# Altium footprint library Potentiometre.PcbLib: 2 footprints
Each footprint in its own frame and in the unit in brackets; x right, y up, seen from the top. Pads: shape width x height; smd on the part's side, far side on the other; paste and mask are expansions set on the pad; w line width, h text height; cw(c..) or ccw(c..) is an arc to the next point about the centre after c.
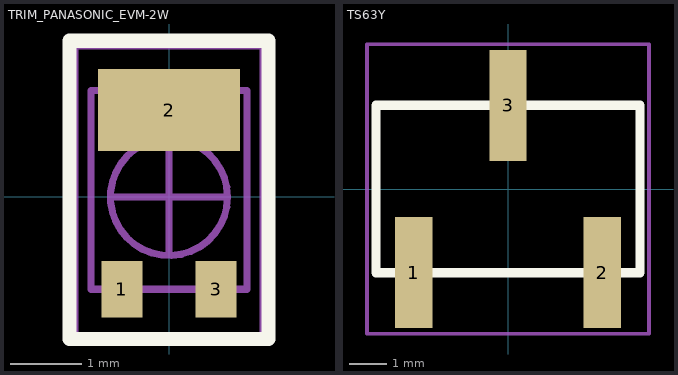
[diagram p0: the footprints below, top view; thin cyan lines are the x and y axes]

## TRIM_PANASONIC_EVM-2W [mm] "SMT Trimmer Potentiometers"
height 1.05
pads (3):
  rect 0.575x0.8 smd: 1(-0.662,-1.3) 3(0.662,-1.3)
  rect 2x1.15 smd: 2(0,1.225)
Top Overlay:
  lines w0.2: -1.4,-2 -1.4,2.2 1.4,2.2 1.4,-2 -1.4,-2
Mechanical 7:
  circle w0.1: c0,0 r0.825
  lines w0.1: -0.8,-1.3 -0.8,-1.5 -0.5,-1.5 -0.5,-1.3 ; -0.8,0 0.825,0 ; -0.6,1.5 -0.6,1.7 0.5,1.7 0.5,1.5 ; 0,-0.8 0,0.8 ; 0.5,-1.3 0.5,-1.5 0.8,-1.5 0.8,-1.3 ; -1.1,-1.3 -1.1,1.5 1.1,1.5 1.1,-1.3 -1.1,-1.3
  text ".Designator" at -0.3,1 h1.2
Mechanical 9:
  lines w0.05: -1.3,-1.95 -1.3,2.1 1.3,2.1 1.3,-1.95 -1.3,-1.95
  lines w0.1: -0.5,0 0.5,0 ; 0,-0.5 0,0.5
3D body "User Library-EVM2W.step": height 1.05, standoff 0, extent -1.1,-1.3 1.1,1.45

## TS63Y [mm] "VISHAY SFERNICE  TS63Y104KT20  TRIMMER CMS 13 TOURS 100K"
height 8
pads (3):
  rect 1x3 smd: 1(-2.54,-2.25) 2(2.54,-2.25) 3(0,2.25)
Top Overlay:
  lines w0.254: -3.556,-2.25 3.556,-2.25 3.556,2.25 -3.556,2.25 -3.556,-2.25
Mechanical 15:
  lines w0.1: -3.8,-3.9 3.8,-3.9 3.8,3.9 -3.8,3.9 -3.8,-3.9
3D body: height 8.3, standoff 0.3, extent -3.293,0.602 -1.5,2.398
3D body: height 6.55, standoff 0.3, extent -3.4,-2.5 3.4,2.5